# EAGLE library part MC100LVEL11DTG (library ON Semiconductor_By_element14_Batch_1)
Differential Fanout Buffer
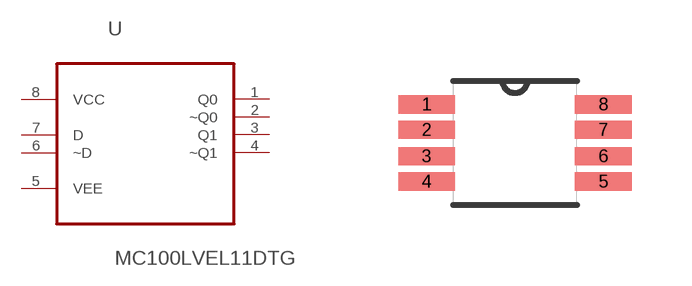
[diagram p141: symbol with the pads of SOP65P490X110-8N; footprint SOP65P490X110-8N]

Designator prefix U

## MC100LVEL11DTG (MPN: MC100LVEL11DTG; OC_FARNELL: 1364053; OC_NEWARK: 26K3898; P1I: o; PACKAGE: TSSOP-8; SUPPLIER: On Semiconductor)  [SOP65P490X110-8N]
1  Q0  out
2  ~Q0  out
3  Q1  out
4  ~Q1  out
5  VEE  pwr
6  ~D  in
7  D  in
8  VCC  pwr

## Footprint SOP65P490X110-8N (pad centres in mm)
smd 1.422 x 0.457: 1 -2.21,0.965; 2 -2.21,0.33; 3 -2.21,-0.33; 4 -2.21,-0.965; 5 2.21,-0.965; 6 2.21,-0.33; 7 2.21,0.33; 8 2.21,0.965